# Altium footprint library RC.PcbLib: 63 footprints (part 3 of 4)
Each footprint in its own frame and in the unit in brackets; x right, y up, seen from the top. Pads: shape width x height; smd on the part's side, far side on the other; paste and mask are expansions set on the pad; w line width, h text height; cw(c..) or ccw(c..) is an arc to the next point about the centre after c.
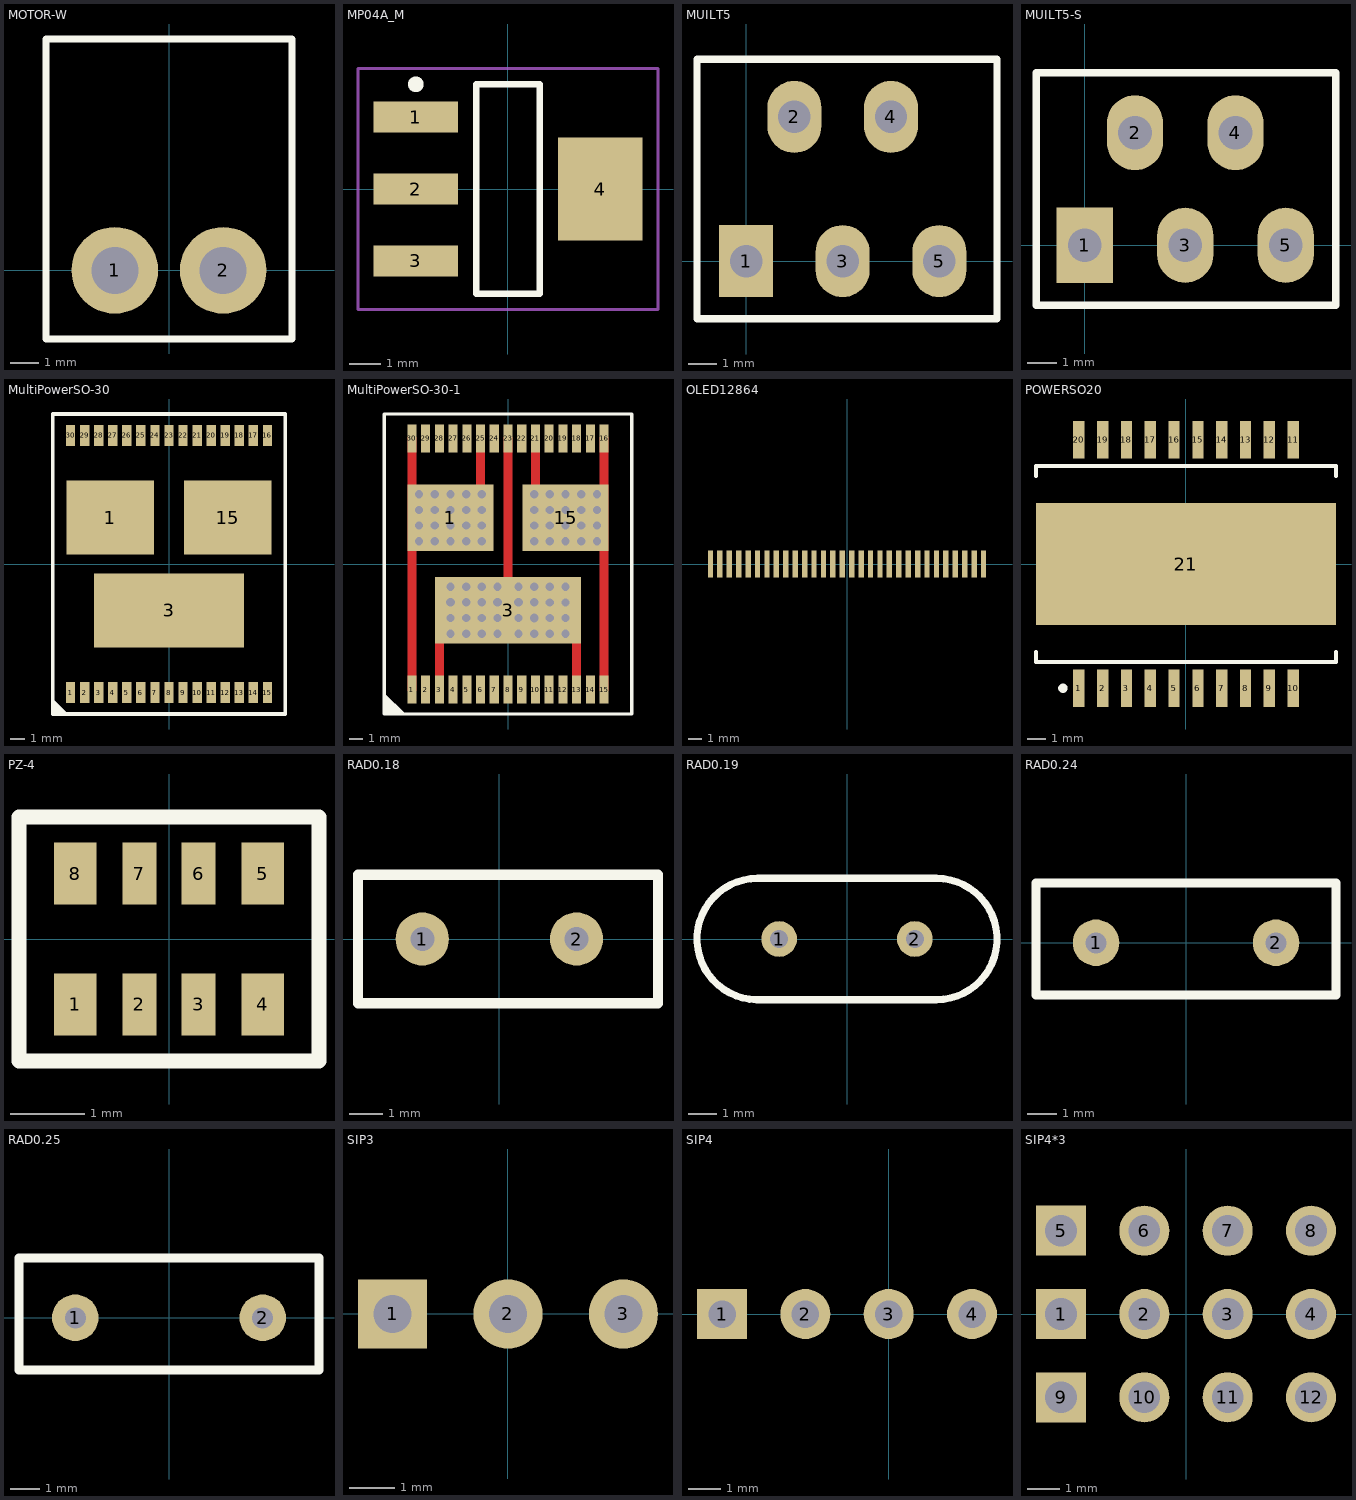
[diagram p2: the footprints below, top view; thin cyan lines are the x and y axes]

## MOTOR-W [mil]
pads (2):
  round 120 hole 65: 1(-75,0) 2(75,0)
Top Overlay:
  lines w10: -170,-95 -170,320 170,320 170,-95 -170,-95

## MP04A_M [mm] "SOT223, 4-Leads, Body 6.5x3.5mm, Pitch 2.3mm, Lead Span 7mm, IPC Low Density"
height 1.8
pads (4):
  rect 2.7x1 smd: 1(-2.95,2.3) 2(-2.95,0) 3(-2.95,-2.3)
  rect 2.7x3.3 smd: 4(2.95,0)
Top Overlay:
  circle w0.25: c-2.95,3.35 r0.125
  lines w0.2: -1.016,-3.35 -1.016,3.35 1.016,3.35 1.016,-3.35 -1.016,-3.35
Mechanical 15:
  lines w0.1: -4.8,-3.85 -4.8,3.85 4.8,3.85 4.8,-3.85 -4.8,-3.85

## MUILT5 [mil]
pads (5):
  rect 75x100 hole 45: 1(0,0)
  oval 75x100 hole 45: 2(67,200) 3(134,0) 4(201,200) 5(268,0)
Top Overlay:
  lines w10: -68,-80 -68,280 348,280 348,-80 -68,-80

## MUILT5-S [mil]
pads (5):
  rect 75x100 hole 45: 1(0,0)
  oval 75x100 hole 45: 2(67,150) 3(134,0) 4(201,150) 5(268,0)
Top Overlay:
  lines w10: -65,-80 335,-80 335,230 -65,230 -65,-80

## MultiPowerSO-30 [mm]
pads (33):
  rect 0.66x1.5 smd: 1(-7,-9.15) 2(-6,-9.15) 3(-5,-9.15) 4(-4,-9.15) 5(-3,-9.15) 6(-2,-9.15) 7(-1,-9.15) 8(0,-9.15) 9(1,-9.15) 10(2,-9.15) 11(3,-9.15) 12(4,-9.15) 13(5,-9.15) 14(6,-9.15) 15(7,-9.15) 16(7,9.15) 17(6,9.15) 18(5,9.15) 19(4,9.15) 20(3,9.15) 21(2,9.15) 22(1,9.15) 23(0,9.15) 24(-1,9.15) 25(-2,9.15) 26(-3,9.15) 27(-4,9.15) 28(-5,9.15) 29(-6,9.15) 30(-7,9.15)
  rect 6.23x5.25 smd: 1(-4.166,3.302) 15(4.166,3.302)
  rect 10.668x5.25 smd: 3(0,-3.302)
Top Overlay:
  region: -8.255,-9.779 -8.255,-10.668 -7.366,-10.668
  lines w0.254: -8.255,-9.779 -7.366,-10.668 ; -8.255,-9.779 -8.255,10.668 8.255,10.668 8.255,-10.668 -7.366,-10.668 ; -8.255,-9.779 -8.255,-10.668 -7.366,-10.668

## MultiPowerSO-30-1 [mil]
pads (33):
  rect 25.98x80 smd: 1(-275.59,-360) 2(-236.22,-360) 3(-196.85,-360) 4(-157.48,-360) 5(-118.11,-360) 6(-78.74,-360) 7(-39.37,-360) 8(0,-360) 9(39.37,-360) 10(78.74,-360) 11(118.11,-360) 12(157.48,-360) 13(196.85,-360) 14(236.22,-360) 15(275.59,-360) 16(275.59,360) 17(236.22,360) 18(196.85,360) 19(157.48,360) 20(118.11,360) 21(78.74,360) 22(39.37,360) 23(0,360) 24(-39.37,360) 25(-78.74,360) 26(-118.11,360) 27(-157.48,360) 28(-196.85,360) 29(-236.22,360) 30(-275.59,360)
  rect 246.2x190 smd: 1(-165,132.5) 15(165,132.5)
  rect 419.7x190 smd: 3(0,-132.5)
via 165,-65 diameter 43.31 hole 23.62
via 120,-65 diameter 43.31 hole 23.62
via 75,-65 diameter 43.31 hole 23.62
via 30,-65 diameter 43.31 hole 23.62
via 165,-200 diameter 43.31 hole 23.62
via 120,-200 diameter 43.31 hole 23.62
via 75,-200 diameter 43.31 hole 23.62
via 30,-200 diameter 43.31 hole 23.62
via 165,-110 diameter 43.31 hole 23.62
via 120,-110 diameter 43.31 hole 23.62
via 75,-110 diameter 43.31 hole 25
via 30,-110 diameter 43.31 hole 25
via 165,-155 diameter 43.31 hole 23.62
via 120,-155 diameter 43.31 hole 23.62
via 75,-155 diameter 43.31 hole 25
via 30,-155 diameter 43.31 hole 23.62
via -165,-200 diameter 43.31 hole 23.62
via -30,-200 diameter 43.31 hole 23.62
via -75,-200 diameter 43.31 hole 23.62
via -120,-200 diameter 43.31 hole 23.62
via -165,-65 diameter 43.31 hole 23.62
via -120,-65 diameter 43.31 hole 23.62
via -75,-65 diameter 43.31 hole 23.62
via -30,-65 diameter 43.31 hole 23.62
via -165,-155 diameter 43.31 hole 23.62
via -120,-155 diameter 43.31 hole 23.62
via -75,-155 diameter 43.31 hole 23.62
via -30,-155 diameter 43.31 hole 23.62
via -30,-110 diameter 43.31 hole 25
via -75,-110 diameter 43.31 hole 25
via -120,-110 diameter 43.31 hole 25
via -165,-110 diameter 43.31 hole 25
via -165,155 diameter 43.31 hole 23.62
via 255,65 diameter 43.31 hole 23.62
via 255,110 diameter 43.31 hole 23.62
via 255,155 diameter 43.31 hole 23.62
via 255,200 diameter 43.31 hole 23.62
via 210,65 diameter 43.31 hole 23.62
via 165,65 diameter 43.31 hole 23.62
via 120,65 diameter 43.31 hole 23.62
via 75,65 diameter 43.31 hole 23.62
via 210,110 diameter 43.31 hole 23.62
via 165,110 diameter 43.31 hole 23.62
via 120,110 diameter 43.31 hole 23.62
via 75,110 diameter 43.31 hole 23.62
via 75,155 diameter 43.31 hole 23.62
via 120,155 diameter 43.31 hole 23.62
via 165,155 diameter 43.31 hole 23.62
via 210,155 diameter 43.31 hole 23.62
via 210,200 diameter 43.31 hole 23.62
via 165,200 diameter 43.31 hole 23.62
via 120,200 diameter 43.31 hole 23.62
via 75,200 diameter 43.31 hole 23.62
via -75,65 diameter 43.31 hole 23.62
via -75,110 diameter 43.31 hole 23.62
via -165,110 diameter 43.31 hole 23.62
via -210,110 diameter 43.31 hole 23.62
via -255,110 diameter 43.31 hole 23.62
via -255,65 diameter 43.31 hole 23.62
via -210,65 diameter 43.31 hole 23.62
via -165,65 diameter 43.31 hole 23.62
via -120,65 diameter 43.31 hole 23.62
via -120,110 diameter 43.31 hole 23.62
via -75,155 diameter 43.31 hole 23.62
via -120,155 diameter 43.31 hole 23.62
via -210,155 diameter 43.31 hole 23.62
via -255,155 diameter 43.31 hole 23.62
via -75,200 diameter 43.31 hole 23.62
via -120,200 diameter 43.31 hole 23.62
via -165,200 diameter 43.31 hole 23.62
via -210,200 diameter 43.31 hole 23.62
via -255,200 diameter 43.31 hole 23.62
Top Layer:
  lines w26: -275.59,-360 -275.59,360 ; -196.85,-360 -196.85,-216.85 ; -78.74,226.26 -78.74,360 ; 0,-50 0,360 ; 78.74,226.26 78.74,360 ; 196.85,-360 196.85,-221.85 ; 275.59,-360 275.59,360
Top Overlay:
  region: -355,-430 -355,-370 -295,-430
  lines w10: -355,-430 355,-430 355,430 -355,430 -355,-430

## OLED12864 [mm]
pads (30):
  rect 0.4x2 smd: 1(-10.15,0.021) 2(-9.45,0.021) 3(-8.75,0.021) 4(-8.05,0.021) 5(-7.35,0.021) 6(-6.65,0.021) 7(-5.95,0.021) 8(-5.25,0.021) 9(-4.55,0.021) 10(-3.85,0.021) 11(-3.15,0.021) 12(-2.45,0.021) 13(-1.75,0.021) 14(-1.05,0.021) 15(-0.35,0.021) 16(0.35,0.021) 17(1.05,0.021) 18(1.75,0.021) 19(2.45,0.021) 20(3.15,0.021) 21(3.85,0.021) 22(4.55,0.021) 23(5.25,0.021) 24(5.95,0.021) 25(6.65,0.021) 26(7.35,0.021) 27(8.05,0.021) 28(8.75,0.021) 29(9.45,0.021) 30(10.15,0.021)

## POWERSO20 [mm]
pads (21):
  rect 0.6x2 smd: 1(-5.715,-6.625) 2(-4.445,-6.625) 3(-3.175,-6.625) 4(-1.905,-6.625) 5(-0.635,-6.625) 6(0.635,-6.625) 7(1.905,-6.625) 8(3.175,-6.625) 9(4.445,-6.625) 10(5.715,-6.625) 11(5.715,6.625) 12(4.445,6.625) 13(3.175,6.625) 14(1.905,6.625) 15(0.635,6.625) 16(-0.635,6.625) 17(-1.905,6.625) 18(-3.175,6.625) 19(-4.445,6.625) 20(-5.715,6.625)
  rect 16x6.5 smd: 21(0,0)
Top Overlay:
  circle w0.25: c-6.565,-6.625 r0.125
  lines w0.2: -8,-4.7 -8,-5.225 8,-5.225 8,-4.7 ; -8,4.7 -8,5.225 8,5.225 8,4.7

## PZ-4 [mm] "WWW.OURAVR.COM"
pads (8):
  rect 0.58x0.835 smd: 1(-1.27,-0.887) 4(1.27,-0.887) 5(1.27,0.887) 8(-1.27,0.887)
  rect 0.457x0.835 smd: 2(-0.4,-0.887) 3(0.4,-0.887) 6(0.4,0.887) 7(-0.4,0.887)
Top Overlay:
  lines w0.203: -2.032,-1.651 2.032,-1.651 2.032,1.651 -2.032,1.651 -2.032,-1.651

## RAD0.18 [mil]
pads (2):
  round 62 hole 28: 1(-90,0) 2(90,0)
Top Overlay:
  lines w12: -165,-75 185,-75 185,75 -165,75 -165,-75

## RAD0.19 [mil]
pads (2):
  round 50 hole 25: 1(-95,0) 2(95,0)
Top Overlay:
  lines w10: -126.46,-84.99 cw(c-125,0) -125,85 125,85 cw(c125,0) 125,-85 -126.46,-85

## RAD0.24 [mil]
pads (2):
  round 62 hole 28: 1(-120,0) 2(120,0)
Top Overlay:
  lines w12: -200,-70 200,-70 200,80 -200,80 -200,-70

## RAD0.25 [mil]
pads (2):
  round 62 hole 28: 1(-125,0) 2(125,0)
Top Overlay:
  lines w12: -200,-70 200,-70 200,80 -200,80 -200,-70

## SIP3 [mil]
pads (3):
  rect 60x60 hole 33: 1(-100,0)
  round 60 hole 33: 2(0,0) 3(100,0)

## SIP4 [mil]
pads (4):
  rect 60x60 hole 33: 1(-200,0)
  round 60 hole 33: 2(-100,0) 3(0,0) 4(100,0)

## SIP4*3 [mil]
pads (12):
  rect 60x60 hole 38: 1(-150,0) 5(-150,100) 9(-150,-100)
  round 60 hole 38: 2(-50,0) 3(50,0) 4(150,0) 6(-50,100) 7(50,100) 8(150,100) 10(-50,-100) 11(50,-100) 12(150,-100)